# Altium schematic symbol library MOSFETs.SchLib: 2 symbols
Pins are listed as number, name and electrical type; pins without a type are passive.

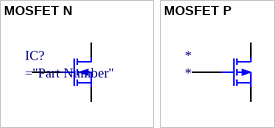
[diagram p0: symbols MOSFET N to MOSFET P]

## MOSFET N
designator IC?
pins: 1 D, 2 G, 3 S

## MOSFET P
designator *
pins: 1 D, 2 G, 3 S